# EAGLE library part ADM1085AKS-REEL7 (library ADM1085AKS-REEL7)
IC SIMPLE SEQUENCER OD SC70-6 Source: Datasheet <http://www.analog.com/media/en/technical-documentation/data-sheets/ADM1085_1086_1087.pdf>
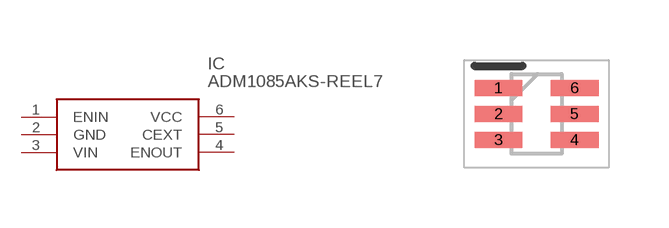
[diagram p0: symbol with the pads of SOT65P210X110-6N; footprint SOT65P210X110-6N]

Designator prefix IC

## ADM1085AKS-REEL7 (Description: IC SIMPLE SEQUENCER OD SC70-6; Height: 1.1mm; Manufacturer_Name: Analog Devices; Manufacturer_Part_Number: ADM1085AKS-REEL7)  [SOT65P210X110-6N]
1  ENIN
2  GND
3  VIN
4  ENOUT
5  CEXT
6  VCC

## Footprint SOT65P210X110-6N (pad centres in mm)
KS-6 (SC70)_1
smd 1.2 x 0.4: 1 -0.95,0.65; 2 -0.95,0; 3 -0.95,-0.65; 4 0.95,-0.65; 5 0.95,0; 6 0.95,0.65